# Altium footprint library VelostatTest.PcbLib: 3 footprints
Each footprint in its own frame and in the unit in brackets; x right, y up, seen from the top. Pads: shape width x height; smd on the part's side, far side on the other; paste and mask are expansions set on the pad; w line width, h text height; cw(c..) or ccw(c..) is an arc to the next point about the centre after c.
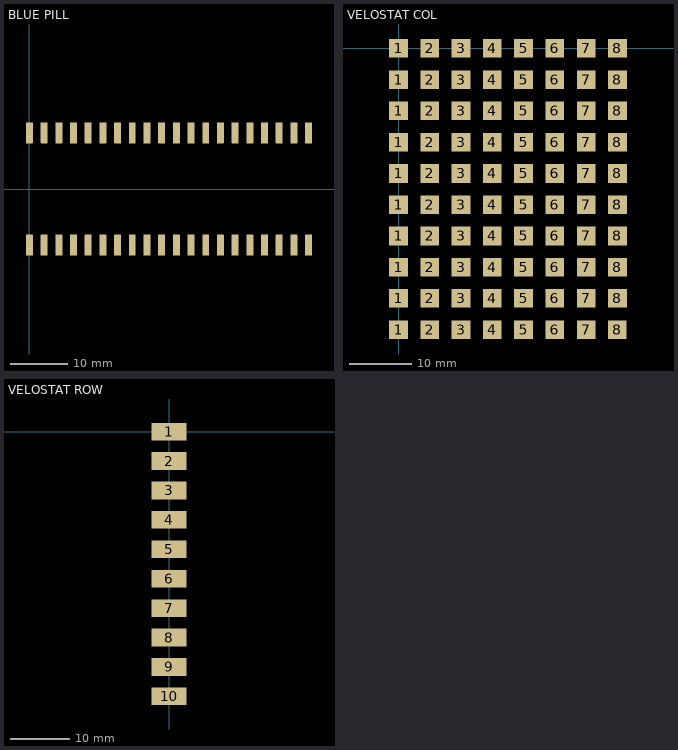
[diagram p0: the footprints below, top view; thin cyan lines are the x and y axes]

## BLUE PILL [mm]
pads (40):
  rrect10% 1.2x3.6 smd: 1(0,-9.7) 2(2.54,-9.7) 3(5.08,-9.7) 4(7.62,-9.7) 7(40.64,-9.7) 8(45.72,-9.7) 9(43.18,-9.7) 10(10.16,-9.7) 11(12.7,-9.7) 12(15.24,-9.7) 13(17.78,-9.7) 14(20.32,-9.7) 15(22.86,-9.7) 16(25.4,-9.7) 17(27.94,-9.7) 18(30.48,-9.7) 19(33.02,-9.7) 21(35.56,-9.7) 22(38.1,-9.7) 23(48.26,-9.7) 25(48.26,9.7) 26(45.72,9.7) 27(43.18,9.7) 28(40.64,9.7) 29(38.1,9.7) 30(35.56,9.7) 31(33.02,9.7) 32(30.48,9.7) 33(27.94,9.7) 35(2.54,9.7) 36(0,9.7) 38(25.4,9.7) 39(22.86,9.7) 40(20.32,9.7) 41(17.78,9.7) 42(15.24,9.7) 43(12.7,9.7) 45(10.16,9.7) 46(7.62,9.7) 49(5.08,9.7)
Top Assembly:
  text "'.Designator'" at 21.254,-0.606 h1.5
3D body "61302011821.stp": height 8.51, standoff -3.09, extent -1.52,6.39 49.78,8.89
3D body "61302011821.stp": height 8.51, standoff -3.09, extent -1.52,-8.85 49.78,-6.35
3D body "User Library-stm32-blue-pill.step": height 11.75, standoff 3.31, extent -4,-11.29 50.276,11.57

## VELOSTAT COL [mm]
pads (80):
  rect 3x3 smd: 1(0,-45) 1(0,-40) 1(0,-35) 1(0,-30) 1(0,-25) 1(0,-20) 1(0,-15) 1(0,-10) 1(0,-5) 1(0,0) 2(5,-45) 2(5,-40) 2(5,-35) 2(5,-30) 2(5,-25) 2(5,-20) 2(5,-15) 2(5,-10) 2(5,-5) 2(5,0) 3(10,-45) 3(10,-40) 3(10,-35) 3(10,-30) 3(10,-25) 3(10,-20) 3(10,-15) 3(10,-10) 3(10,-5) 3(10,0) 4(15,-45) 4(15,-40) 4(15,-35) 4(15,-30) 4(15,-25) 4(15,-20) 4(15,-15) 4(15,-10) 4(15,-5) 4(15,0) 5(20,-45) 5(20,-40) 5(20,-35) 5(20,-30) 5(20,-25) 5(20,-20) 5(20,-15) 5(20,-10) 5(20,-5) 5(20,0) 6(25,-45) 6(25,-40) 6(25,-35) 6(25,-30) 6(25,-25) 6(25,-20) 6(25,-15) 6(25,-10) 6(25,-5) 6(25,0) 7(30,-45) 7(30,-40) 7(30,-35) 7(30,-30) 7(30,-25) 7(30,-20) 7(30,-15) 7(30,-10) 7(30,-5) 7(30,0) 8(35,-45) 8(35,-40) 8(35,-35) 8(35,-30) 8(35,-25) 8(35,-20) 8(35,-15) 8(35,-10) 8(35,-5) 8(35,0)

## VELOSTAT ROW [mm]
pads (10):
  rect 6x3 smd: 1(0,0) 2(0,-5) 3(0,-10) 4(0,-15) 5(0,-20) 6(0,-25) 7(0,-30) 8(0,-35) 9(0,-40) 10(0,-45)